# EAGLE library part ARDUINO_PRO_MINI (library TriDrone)
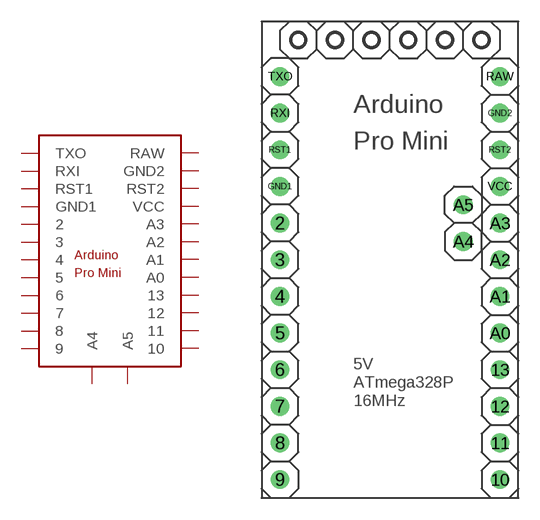
[diagram p0: symbol with the pads of ARDUINO_PRO_MINI; footprint ARDUINO_PRO_MINI]

Designator prefix -

## ARDUINO_PRO_MINI  [ARDUINO_PRO_MINI]
2  2
3  3
4  4
5  5
6  6
7  7
8  8
9  9
10  10
11  11
12  12
13  13
A0  A0
A1  A1
A2  A2
A3  A3
A4  A4
A5  A5
GND1  GND1
GND2  GND2
RAW  RAW
RST1  RST1
RST2  RST2
RXI  RXI
TXO  TXO  out
VCC  VCC

## Footprint ARDUINO_PRO_MINI (pad centres in mm)
drill 0.8 round: 2 -7.62,2.54; 3 -7.62,0; 4 -7.62,-2.54; 5 -7.62,-5.08; 6 -7.62,-7.62; 7 -7.62,-10.16; 8 -7.62,-12.7; 9 -7.62,-15.24; 10 7.62,-15.24; 11 7.62,-12.7; 12 7.62,-10.16; 13 7.62,-7.62; A0 7.62,-5.08; A1 7.62,-2.54; A2 7.62,0; A3 7.62,2.54; A4 5.08,1.27; A5 5.08,3.81; GND1 -7.62,5.08; GND2 7.62,10.16; RAW 7.62,12.7; RST1 -7.62,7.62; RST2 7.62,7.62; RXI -7.62,10.16; TXO -7.62,12.7; VCC 7.62,5.08